# Altium schematic symbol library BMS.SchLib: 16 symbols
Pins are listed as number, name and electrical type; pins without a type are passive.

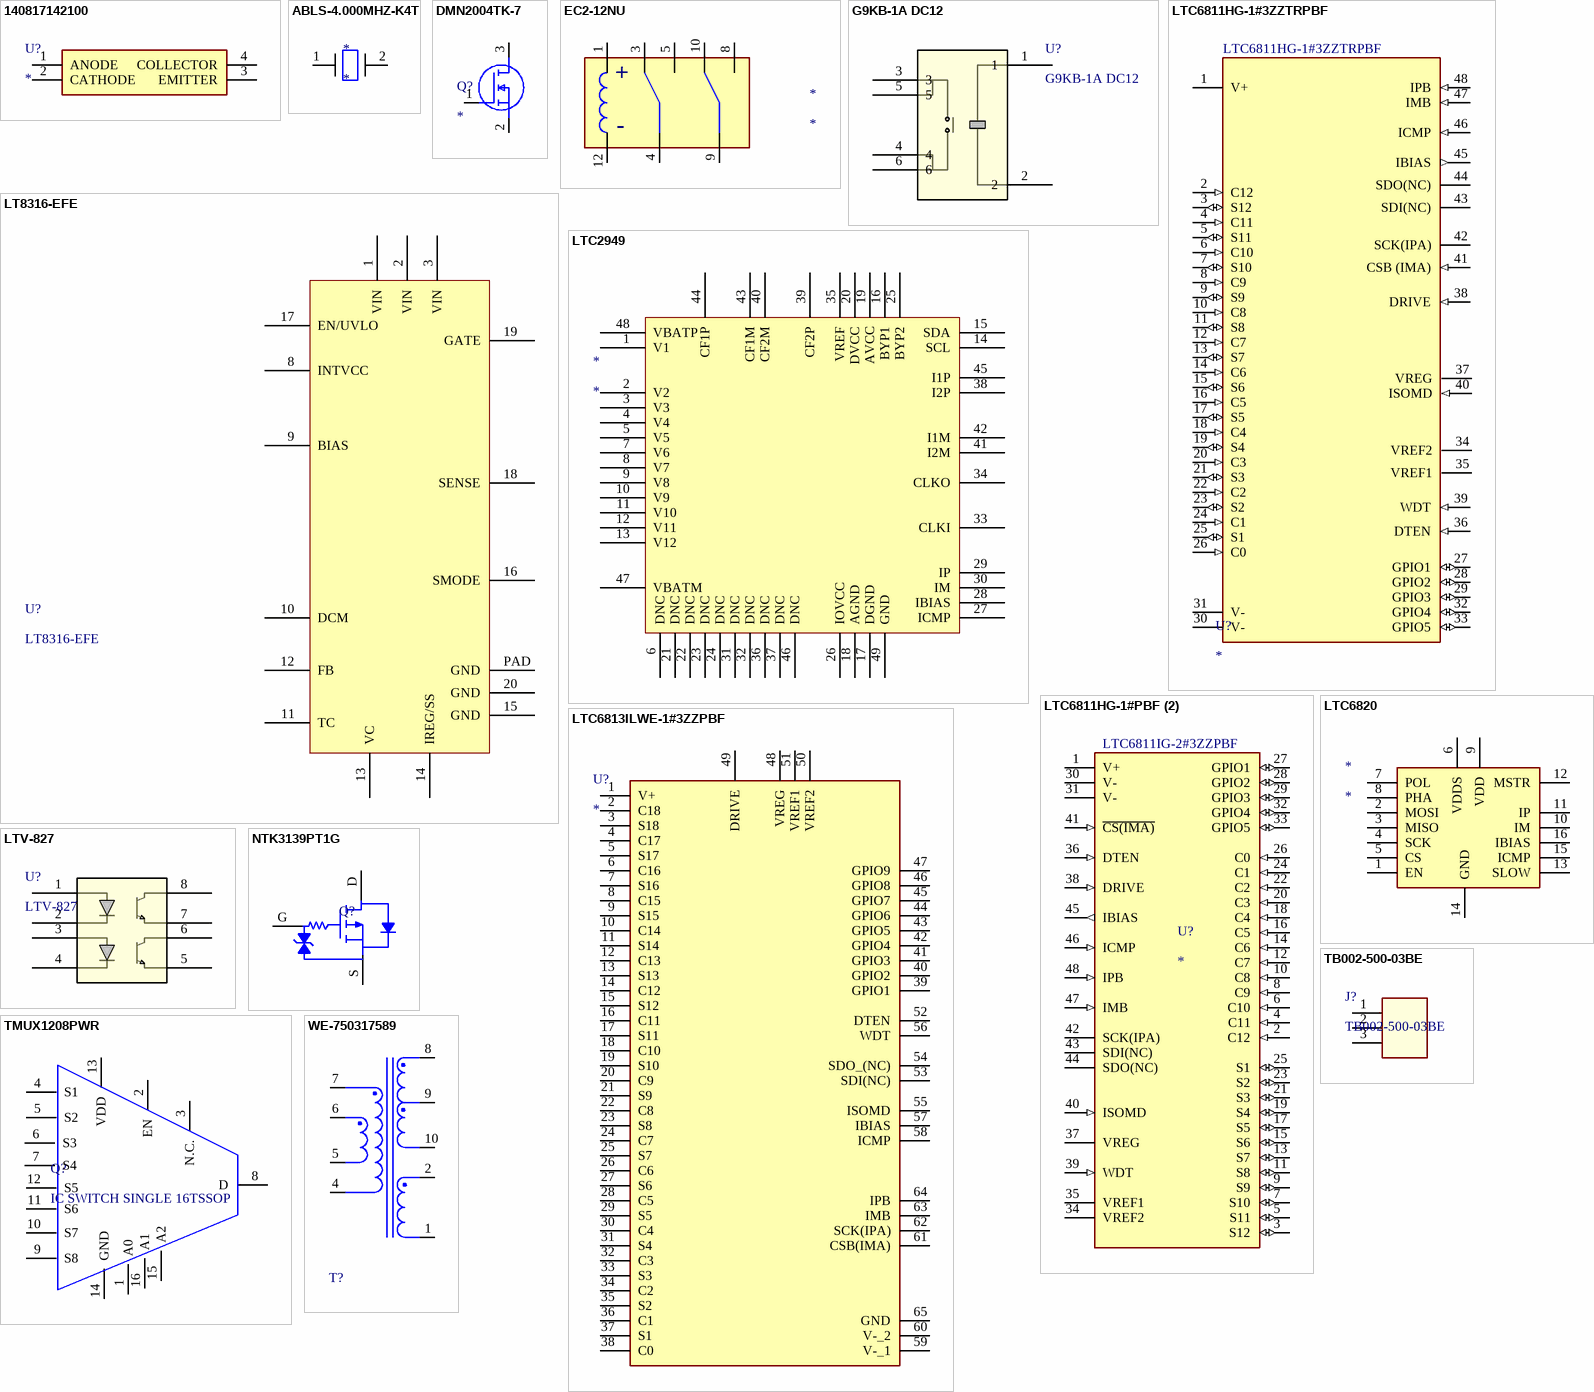
[diagram p0: symbols 140817142100 to WE-750317589]

## 140817142100
designator U?
Optoisolator Transistor Output 5000Vrms 1 Channel 4-DIP-S; Manufacturer_Name: Wurth Elektronik; Manufacturer_Part_Number: 140817142100; Datasheet Link: https://www.we-online.com/catalog/datasheet/140817142100.pdf; Height: 4.6mm; Mouser Part Number: 710-140817142100; Mouser Price/Stock: https://www.mouser.co.uk/ProductDetail/Wurth-Elektronik/140817142100?qs=81r%252BiQLm7BTYhde3AfYdHQ%3D%3D
footprint SOP254P1015X460-4N
pins: 1 ANODE, 2 CATHODE, 3 EMITTER, 4 COLLECTOR

## ABLS-4.000MHZ-K4T
designator *
Crystal Oscillator 4MHz 18pF
footprint Crystal Oscillator 4MHz 18pF
pins: 1, 2

## DMN2004TK-7
designator Q?
MOSFET (N-Channel); Manufacturer_Name: Diodes Inc.; Manufacturer_Part_Number: DMN2004TK-7; Datasheet Link: https://www.arrow.com/en/products/dmn2004tk-7/diodes-incorporated; Height: 0.9mm; Mouser Part Number: 621-DMN2004TK-7; Mouser Price/Stock: https://www.mouser.co.uk/ProductDetail/Diodes-Incorporated/DMN2004TK-7?qs=oUsD4qhOtFzBL4X%2FeVPWYw%3D%3D; Arrow Part Number: DMN2004TK-7; Arrow Price/Stock: https://www.arrow.com/en/products/dmn2004tk-7/diodes-incorporated; Datasheet: https://www.diodes.com/assets/Datasheets/ds30936.pdf
footprint SOT50P160X90-3N
pins: 1 G, 2 S, 3 D

## EC2-12NU
designator *
Manufacturer Part Number: EC2-12NU; Manufacturer: KEMET; Supplier Part Number: 399-11029-5-ND; Supplier: Digikey
footprint EC2-12NU (Precharge relay)
pins: 1, 3, 4, 5, 8, 9, 10, 12
text: +; -

## G9KB-1A DC12
designator U?
General Purpose Relay SPST-NO (1 Form A) 50A 12VDC Coil Through Hole; Mfr_Name: Omron; Copyright: Copyright (C) 2023 Ultra Librarian. All rights reserved.; Manufacturer_Part_Number: G9KB-1A DC12; Digi-Key_Part_Number_1: 39-G9KB-1ADC12-ND; RefDes: RefDes; Type: Type
footprint RELAY_G9KB-1A_OMR
pins: 1, 2, 3, 4, 5, 6

## LT8316-EFE
designator U?
600VIN MICROPOWER, ISOLATED NO-O; Manufacturer: Analog Devices; Manufacturer Part Number: LT8316EFE; Supplier: Digikey; Supplier Part Number: LT8316EFE#PBF-ND
footprint LTC8315/8316 (TSOP, 20-Leads, Body 6.50x4.40mm, Pitch 0.65mm, Thermal Pad 5.68x1.78mm, IPC Medium Density)
pins: 1 VIN, 2 VIN, 3 VIN, 8 INTVCC, 9 BIAS, 10 DCM, 11 TC, 12 FB, 13 VC, 14 IREG/SS, 15 GND, 16 SMODE, 17 EN/UVLO, 18 SENSE, 19 GATE, 20 GND, PAD GND

## LTC2949
designator *
Manufacturer: Analog Devices; Manufacturer Part Number: LTC2949ILXE#3ZZPBF; Supplier: Mouser; Supplier Part Number: 584-2949ILXE3ZZPBF
footprint LTC2949 (LQFP, 48-Leads, IPC Medium Density)
pins: 1 V1, 2 V2, 3 V3, 4 V4, 5 V5, 6 DNC, 7 V6, 8 V7, 9 V8, 10 V9, 11 V10, 12 V11, 13 V12, 14 SCL, 15 SDA, 16 BYP1 (power), 17 DGND (power), 18 AGND (power), 19 AVCC (power), 20 DVCC (power), 21 DNC, 22 DNC, 23 DNC, 24 DNC, 25 BYP2 (power), 26 IOVCC (power), 27 ICMP, 28 IBIAS, 29 IP, 30 IM, 31 DNC, 32 DNC, 33 CLKI, 34 CLKO, 35 VREF (power), 36 DNC, 37 DNC, 38 I2P, 39 CF2P, 40 CF2M, 41 I2M, 42 I1M, 43 CF1M, 44 CF1P, 45 I1P, 46 DNC, 47 VBATM, 48 VBATP, 49 GND (power)

## LTC6811HG-1#3ZZTRPBF
designator U?  Manufacturer Part Number: LTC6811HG-1#3ZZTRPBF
Multicell Battery Balancer 5.7V Automotive 48-Pin SSOP T/R; Manufacturer: Analog Devices / Linear Technology; Analog IC - Other Type: POWER SUPPLY MANAGEMENT CIRCUIT; Supplier 1: Mouser; RoHS: Yes; Category: Battery Management; Pricing 1: 1=21.45000, 10=19.72000, 25=18.91000, 50=18.91000, 100=18.91000, 111=16.65000, 1000=16.65000, 10000=16.65000 (USD); REACH SVHC: Yes; RoHS Compliant: Yes; ComponentLink1URL: https://www.analog.com/media/en/technical-documentation/data-sheets/LTC6811-1-6811-2.pdf; ComponentLink1Description: https://datasheet.ciiva.com:443/pdfs/VipMasterIC/IC/LITC/LITC-S-A0003389121/LITC-S-A0003389121-1.pdf?src-supplier=IHS+Markit; Supplier 2: Mouser; Supplier Part Number 2: 584-6811HG-1#3ZZTRPB; Pricing 2: 1=22.70000, 10=20.93000, 50=20.00000, 100=17.88000, 1000=16.64000, 10000=16.64000 (USD)
footprint LTC6811-1
pins: 1 V+ (power), 2 C12 (in), 3 S12 (io), 4 C11 (in), 5 S11 (io), 6 C10 (in), 7 S10 (io), 8 C9 (in), 9 S9 (io), 10 C8 (in), 11 S8 (io), 12 C7 (in), 13 S7 (io), 14 C6 (in), 15 S6 (io), 16 C5 (in), 17 S5 (io), 18 C4 (in), 19 S4 (io), 20 C3 (in), 21 S3 (io), 22 C2 (in), 23 S2 (io), 24 C1 (in), 25 S1 (io), 26 C0 (in), 27 GPIO1 (io), 28 GPIO2 (io), 29 GPIO3 (io), 30 V- (power), 31 V- (power), 32 GPIO4 (io), 33 GPIO5 (io), 34 VREF2 (power), 35 VREF1 (power), 36 DTEN (in), 37 VREG (power), 38 DRIVE (in), 39 WDT (in), 40 ISOMD (in), 41 CSB (IMA) (in), 42 SCK(IPA), 43 SDI(NC), 44 SDO(NC), 45 IBIAS (out), 46 ICMP (in), 47 IMB (in), 48 IPB (in)

## LTC6811HG-1#PBF (2)
designator U?  Manufacturer Part Number: LTC6811IG-2#3ZZPBF
Power Supply Management Circuit; Manufacturer: Analog Devices / Linear Technology; Supplier 1: Mouser; RoHS: Yes; Category: Battery Management; Pricing 1: 1=21.45000, 10=19.72000, 25=18.91000, 50=18.91000, 100=18.91000, 111=16.65000, 1000=16.65000, 10000=16.65000 (USD); Analog IC - Other Type: POWER SUPPLY MANAGEMENT CIRCUIT; REACH SVHC: Yes; RoHS Compliant: Yes; ComponentLink1URL: https://datasheet.ciiva.com:443/pdfs/VipMasterIC/IC/LITC/LITC-S-A0003389121/LITC-S-A0003389121-1.pdf?src-supplier=IHS+Markit; ComponentLink1Description: https://datasheet.ciiva.com:443/pdfs/VipMasterIC/IC/LITC/LITC-S-A0003389121/LITC-S-A0003389121-1.pdf?src-supplier=IHS+Markit
footprint LTC6811IG-2#3ZZPBF (Battery Management Multicell Battery Stack Monitor with Addressable isoSPI Interface with 3ZZ)
pins: 1 V+ (power), 2 C12 (in), 3 S12 (io), 4 C11 (in), 5 S11 (io), 6 C10 (in), 7 S10 (io), 8 C9 (in), 9 S9 (io), 10 C8 (in), 11 S8 (io), 12 C7 (in), 13 S7 (io), 14 C6 (in), 15 S6 (io), 16 C5 (in), 17 S5 (io), 18 C4 (in), 19 S4 (io), 20 C3 (in), 21 S3 (io), 22 C2 (in), 23 S2 (io), 24 C1 (in), 25 S1 (io), 26 C0 (in), 27 GPIO1 (io), 28 GPIO2 (io), 29 GPIO3 (io), 30 V- (power), 31 V- (power), 32 GPIO4 (io), 33 GPIO5 (io), 34 VREF2 (power), 35 VREF1 (power), 36 DTEN (in), 37 VREG (power), 38 DRIVE (in), 39 WDT (in), 40 ISOMD (in), 41 ~{CS(IMA)} (in), 42 SCK(IPA), 43 SDI(NC), 44 SDO(NC), 45 IBIAS (out), 46 ICMP (in), 47 IMB (in), 48 IPB (in)

## LTC6813ILWE-1#3ZZPBF
designator U?
18-Cell Battery Monitor with Daisy Chain Interface; Manufacturer: Analog Devices; Manufacturer Part Number: LTC6813ILWE-1#3ZZPBF; Supplier Part Number: 584-6813ILWE13ZZPBF; Supplier: Mouser
footprint QFP50P1200X1200X120-65N
pins: 1 V+, 2 C18, 3 S18, 4 C17, 5 S17, 6 C16, 7 S16, 8 C15, 9 S15, 10 C14, 11 S14, 12 C13, 13 S13, 14 C12, 15 S12, 16 C11, 17 S11, 18 C10, 19 S10, 20 C9, 21 S9, 22 C8, 23 S8, 24 C7, 25 S7, 26 C6, 27 S6, 28 C5, 29 S5, 30 C4, 31 S4, 32 C3, 33 S3, 34 C2, 35 S2, 36 C1, 37 S1, 38 C0, 39 GPIO1, 40 GPIO2, 41 GPIO3, 42 GPIO4, 43 GPIO5, 44 GPIO6, 45 GPIO7, 46 GPIO8, 47 GPIO9, 48 VREG, 49 DRIVE, 50 VREF2, 51 VREF1, 52 DTEN, 53 SDI(NC), 54 SDO_(NC), 55 ISOMD, 56 WDT, 57 IBIAS, 58 ICMP, 59 V-_1, 60 V-_2, 61 CSB(IMA), 62 SCK(IPA), 63 IMB, 64 IPB, 65 GND

## LTC6820
designator *
Manufacturer: Analog Devices; Manufacturer Part Number: LTC6820IMS#TRPBF; Supplier: Digikey; Supplier Part Number: LTC6820IMS#TRPBFCT-ND
footprint LTC6820
footprint LT6820_QFN (QFN for 6820)
pins: 1 EN, 2 MOSI, 3 MISO, 4 SCK, 5 CS, 6 VDDS, 7 POL, 8 PHA, 9 VDD, 10 IM, 11 IP, 12 MSTR, 13 SLOW, 14 GND, 15 ICMP, 16 IBIAS

## LTV-827
designator U?
Optoisolator Transistor Output 5000Vrms 2 Channel 8-DIP; Mfr_Name: LITE-ON; Copyright: Copyright (C) 2022 Ultra Librarian. All rights reserved.; Manufacturer_Part_Number: LTV-827; Digi-Key_Part_Number_1: 160-1368-5-ND; RefDes: RefDes; Type: DEV
footprint LTV-827_LTO
pins: 1, 2, 3, 4, 5, 6, 7, 8

## NTK3139PT1G
designator Q?, comment MOSFET P-CH 20V 660MA SOT723  (value not drawn)
P-Channel 20 V 660mA (Ta) 310mW (Ta) Surface Mount SOT-723; Manufacturer: onsemi; Manufacturer Part Number: NTK3139PT1G; Supplier: Digikey; Supplier Part Number: NTK3139PT1GOSTR-ND
footprint NTK3139PT1G
pins: D 3, G 1, S 2

## TB002-500-03BE
designator J?
3 PIN TERMINAL BLOCK SLOTTED; Mfr_Name: CUI Devices; Copyright: Copyright (C) 2021 Ultra Librarian. All rights reserved.; Manufacturer_Part_Number: TB002-500-03BE; RefDes: RefDes; Type: DEV
footprint CONN_TB002-500-X03_CUD
pins: 1, 2, 3

## TMUX1208PWR
designator Q?, comment IC SWITCH SINGLE 16TSSOP
1 Circuit IC Switch 8:1 3Ohm (Typ) 16-TSSOP; Manufacturer_Name: TI; Manufacturer_Part_Number: TMUX1208PWR; Datasheet Link: https://www.ti.com/general/docs/suppproductinfo.tsp?distId=10&gotoUrl=https%3A%2F%2Fwww.ti.com%2Flit%2Fgpn%2Ftmux1208; Mouser Part Number: 296-51847-1-ND; Mouser Price/Stock: https://www.digikey.ca/en/products/detail/texas-instruments/TMUX1208PWR/9665932; Arrow Part Number: DMN2004TK-7; Arrow Price/Stock: https://www.arrow.com/en/products/dmn2004tk-7/diodes-incorporated; Datasheet: https://www.diodes.com/assets/Datasheets/ds30936.pdf
footprint SOT50P160X90-3N
pins: 1 A0, 2 EN, 3 N.C., 4 S1, 5 S2, 6 S3, 7 S4, 8 D, 9 S8, 10 S7, 11 S6, 12 S5, 13 VDD, 14 GND, 15 A2, 16 A1

## WE-750317589
designator T?, comment 7508112332  (value not drawn)
100-600V Flyback Transformer; Manufacturer: Wurth; Manufacturer Part Number: WE-750317589; Supplier: Wurth; Supplier Part Number: WE-750317589
footprint WE-750317589 (FLYBACK TRANSFORMER)
pins: 1, 2, 4, 5, 6, 7, 8, 9, 10